# EAGLE library part MOLEX-SD-52745-1597 (library molex-custom)
0.50mm Pitch Easy-On™ Type FFC/FPC Connector, Right Angle, Surface Mount, ZIF, Top Contact Style, 15 Circuits, Gold (Au) Contact Plating, High Barrier Packaging
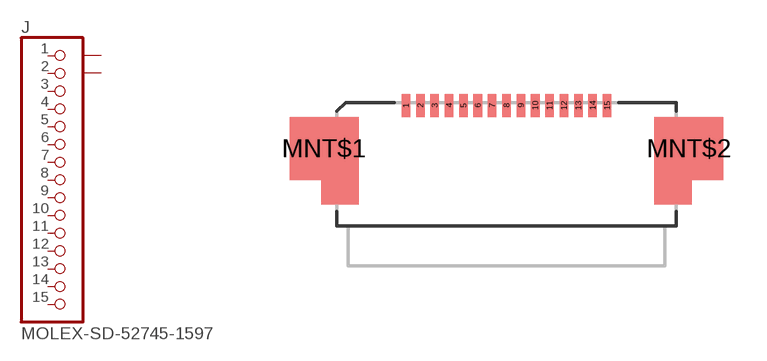
[diagram p0: symbol with the pads of MOLEX-SD-52745-1597; footprint MOLEX-SD-52745-1597]

Designator prefix J

## MOLEX-SD-52745-1597  [MOLEX-SD-52745-1597]
1  1  pas
2  2  pas
3  3  pas
4  4  pas
5  5  pas
6  6  pas
7  7  pas
8  8  pas
9  9  pas
10  10  pas
11  11  pas
12  12  pas
13  13  pas
14  14  pas
15  15  pas
MNT$1  MNT$1  pwr
MNT$2  MNT$2  pwr

## Footprint MOLEX-SD-52745-1597 (pad centres in mm)
0.50mm Pitch Easy-On™ Type FFC/FPC Connector, Right Angle, Surface Mount, ZIF, Top Contact Style, 15 Circuits, Gold (Au) Contact Plating, High Barrier Packaging
smd 0.3 x 0.8: 1 -3.5,0; 2 -3,0; 3 -2.5,0; 4 -2,0; 5 -1.5,0; 6 -1,0; 7 -0.5,0; 8 0,0; 9 0.5,0; 10 1,0; 11 1.5,0; 12 2,0; 13 2.5,0; 14 3,0; 15 3.5,0
smd 2.4 x 2.2: MNT$1 -6.35,-1.5; MNT$2 6.35,-1.5